# Altium footprint library PcbLib1.PcbLib: 2 footprints
Each footprint in its own frame and in the unit in brackets; x right, y up, seen from the top. Pads: shape width x height; smd on the part's side, far side on the other; paste and mask are expansions set on the pad; w line width, h text height; cw(c..) or ccw(c..) is an arc to the next point about the centre after c.
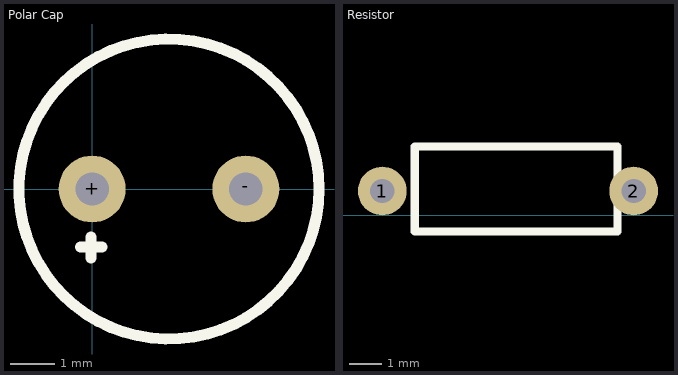
[diagram p0: the footprints below, top view; thin cyan lines are the x and y axes]

## Polar Cap [mil]
pads (2):
  round 60 hole 30: +(0,0) -(137.8,0)
Top Overlay:
  circle w10: c68.9,0 r134.54
  lines w10: -10.38,-52 8.62,-52 ; -1,-62 -1,-43

## Resistor [mil]
pads (2):
  round 60 hole 30: 1(-380,30) 2(-70,30)
Top Overlay:
  lines w10: -340,-20 -90,-20 -90,85 -340,85 -340,-20
3D body "Resistor.STEP": height 39.08, standoff -236.22, extent -404.33,-5 -35.67,73.74